# Altium footprint library crystal_my.PCBLIB: 68 footprints (part 3 of 5)
Each footprint in its own frame and in the unit in brackets; x right, y up, seen from the top. Pads: shape width x height; smd on the part's side, far side on the other; paste and mask are expansions set on the pad; w line width, h text height; cw(c..) or ccw(c..) is an arc to the next point about the centre after c.
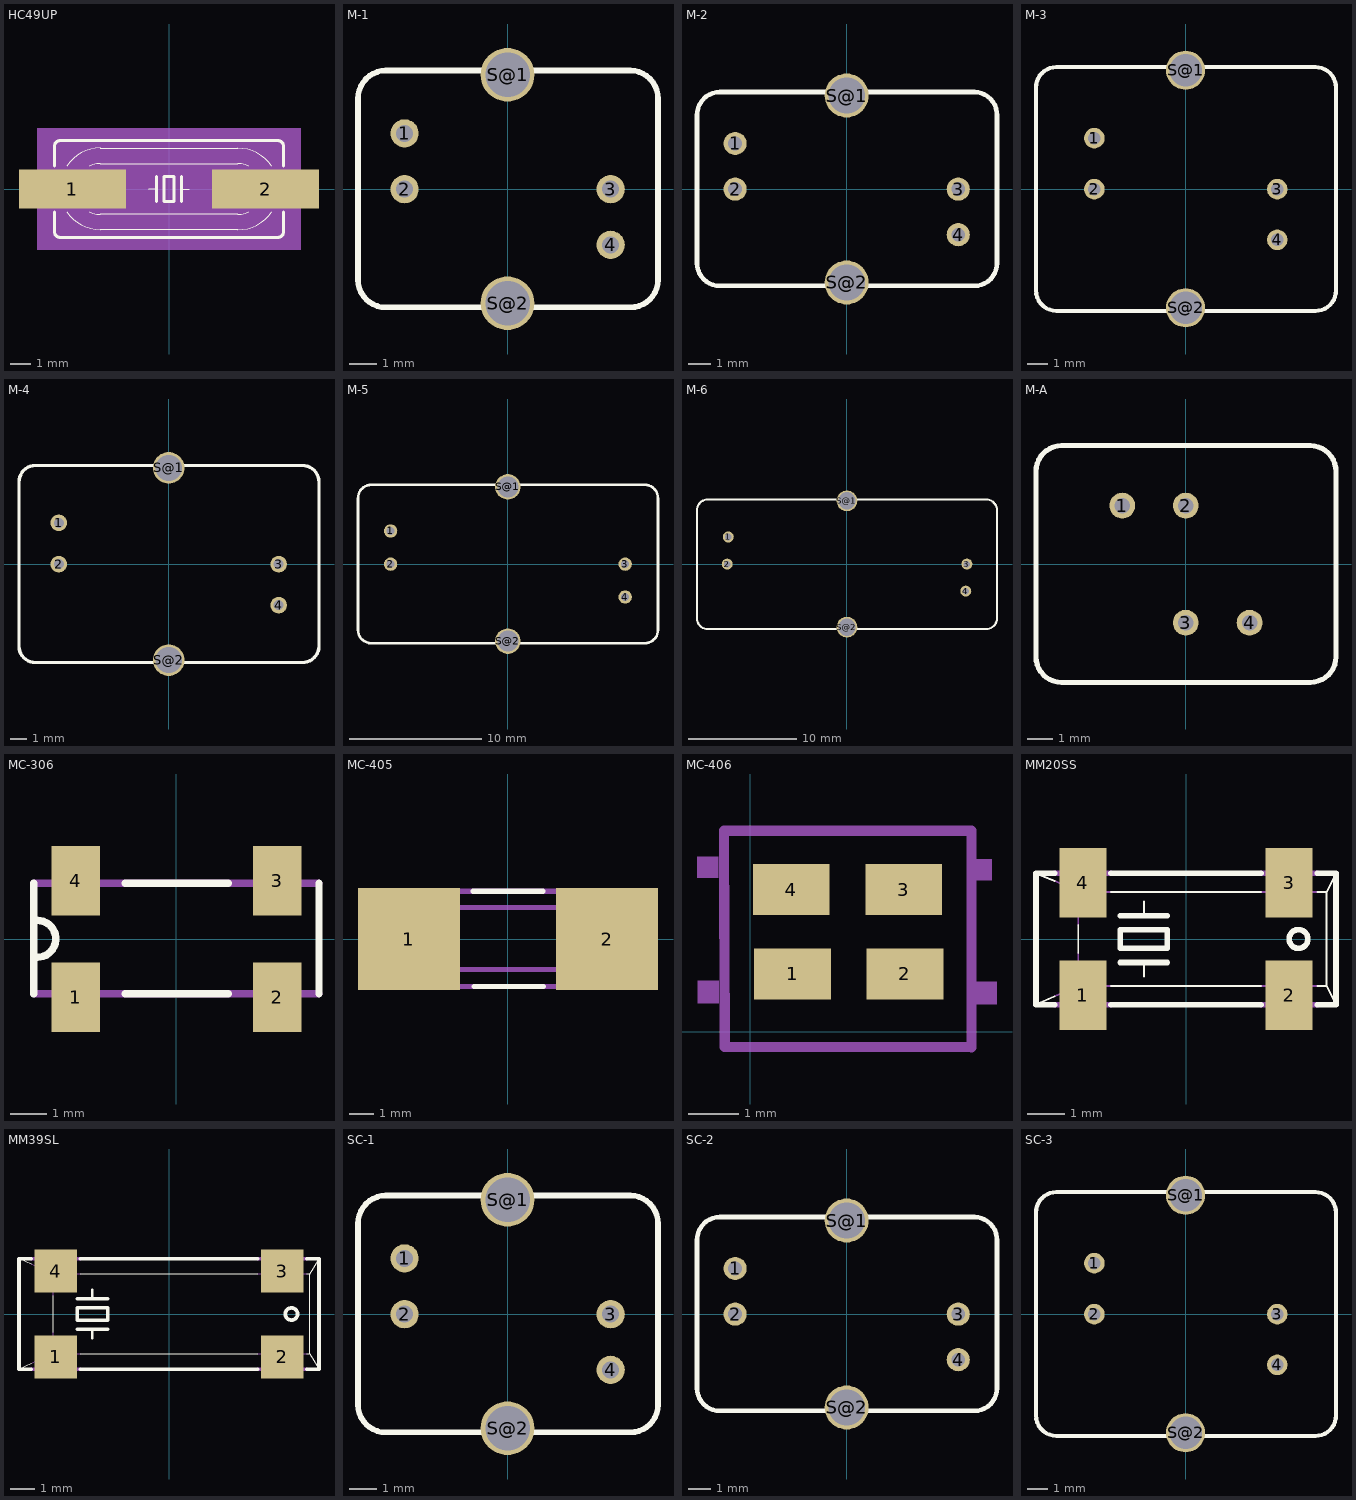
[diagram p2: the footprints below, top view; thin cyan lines are the x and y axes]

## HC49UP [mil]
pads (2):
  rect 210x76 smd: 1(-190,0) 2(190,0)
Top Overlay:
  lines w2: -201.15,-45 ccw(c-135,0) -135,-80 135,-80 ccw(c135.42,0.81) 202,-45 ; -201.15,45 cw(c-134.06,0.5) -135,81 ; -156.8,-45 ccw(c-135,0) -135,-50 135,-50 ccw(c135.1,0.45) 157,-45 ; -156.8,45 cw(c-135,0) -135,50 135,50 cw(c135.1,-0.45) 157,45 ; -135,80 135,80 cw(c135.43,-0.81) 202,45 ; -40,0 -25,0 ; 25,0 40,0
  lines w6: -225,-45 -225,-85 ccw(c-215,-85) -215,-95 215,-95 ccw(c215,-85) 225,-85 225,-45 ; -225,45 -225,85 cw(c-215,85) -215,95 215,95 cw(c215,85) 225,85 225,45 ; -25,-25 -25,0 -25,25 ; 25,-25 25,0 25,25 ; -10,-25 -10,25 10,25 10,-25 -10,-25
Mechanical 10:
  rectangle: -260,-120 260,120
Mechanical 16:
  lines w2: -201.15,-45 cw(c-135,0) -201.15,45 ; -156.8,-45 cw(c-135,0) -156.8,45 ; 157,-45 ccw(c135.2,0) 157,45 ; 202,-45 ccw(c135.85,0) 202,45
  lines w6: -225,-45 -225,-15 ; -225,45 -225,15 ; 225,-45 225,45 ; 225,-15 255,-15 255,15 225,15 ; -225,-15 -225,15 ; -225,-15 -255,-15 -255,15 -225,15

## M-1 [mil]
pads (6):
  round 40 hole 24: 1(-145.67,79) 2(-145.67,0) 3(146,0) 4(146,-78.74)
  round 76 hole 63: S@1(0,162) S@2(0,-161.42)
Top Overlay:
  lines w8: -211.61,-127.95 -211.61,128 cw(c-171.93,128.31) -172.24,168 174,168 cw(c173.5,128.5) 213,128 213,-127.95 cw(c173.81,-128.14) 174,-167.32 -172.24,-167.32 cw(c-172.24,-127.95) -211.61,-127.95

## M-2 [mil]
pads (6):
  round 40 hole 24: 1(-192.91,79) 2(-192.91,0) 3(193,0) 4(193,-78.74)
  round 76 hole 63: S@1(0,162) S@2(0,-161.42)
Top Overlay:
  lines w8: -258.86,-127.95 -258.86,128 cw(c-219.17,128.31) -219.49,168 221,168 cw(c220.5,128.5) 260,128 260,-127.95 cw(c220.81,-128.14) 221,-167.32 -219.49,-167.32 cw(c-219.49,-127.95) -258.86,-127.95

## M-3 [mil]
pads (6):
  round 40 hole 24: 1(-177.17,99) 2(-177.17,0) 3(178,0) 4(178,-98.43)
  round 76 hole 63: S@1(0,231) S@2(0,-230.31)
Top Overlay:
  lines w8: -290.35,-196.85 -290.35,197 cw(c-250.67,197.31) -250.98,237 252,237 cw(c252,197) 292,197 292,-196.85 cw(c252.31,-196.54) 252,-236.22 -250.98,-236.22 cw(c-250.98,-196.85) -290.35,-196.85

## M-4 [mil]
pads (6):
  round 40 hole 24: 1(-263.78,99) 2(-263.78,0) 3(264,0) 4(264,-98.43)
  round 76 hole 63: S@1(0,231) S@2(0,-230.31)
Top Overlay:
  lines w8: -359.25,-196.85 -359.25,197 cw(c-319.57,197.31) -319.88,237 321,237 cw(c321,197) 361,197 361,-196.85 cw(c321.31,-196.54) 321,-236.22 -319.88,-236.22 cw(c-319.88,-196.85) -359.25,-196.85

## M-5 [mil]
pads (6):
  round 40 hole 24: 1(-350.39,99) 2(-350.39,0) 3(351,0) 4(351,-98.43)
  round 76 hole 63: S@1(0,231) S@2(0,-230.31)
Top Overlay:
  lines w8: -447.83,-196.85 -447.83,197 cw(c-408.15,197.31) -408.46,237 410,237 cw(c409.5,197.5) 449,197 449,-196.85 cw(c409.81,-197.04) 410,-236.22 -408.46,-236.22 cw(c-408.46,-196.85) -447.83,-196.85

## M-6 [mil]
pads (6):
  round 40 hole 24: 1(-433.07,99) 2(-437.01,0) 3(438,0) 4(434,-98.43)
  round 76 hole 63: S@1(0,231) S@2(0,-230.31)
Top Overlay:
  lines w8: -547.24,-197.83 -547.24,196 cw(c-507.56,196.31) -507.87,236 508,236 cw(c508,196) 548,196 548,-197.83 cw(c508.31,-197.52) 508,-237.2 -507.87,-237.2 cw(c-507.87,-197.83) -547.24,-197.83

## M-A [mil]
pads (4):
  round 40 hole 24: 1(-98.43,91) 2(0,91) 3(0,-90.55) 4(99,-90.55)
Top Overlay:
  lines w8: -232.28,-143.7 -232.28,144 cw(c-192.6,144.31) -192.91,184 193,184 cw(c193,144) 233,144 233,-143.7 cw(c193.31,-143.39) 193,-183.07 -192.91,-183.07 cw(c-192.91,-143.7) -232.28,-143.7

## MC-306 [mil]
pads (4):
  rect 52x75 smd: 1(-108.27,-62.99) 2(109,-62.99) 3(109,63) 4(-108.27,63)
Top Overlay:
  lines w8: -153.54,-59.06 -153.54,60 ; -149.61,-19.69 ccw(c-149.61,0.16) -149.61,20 ; -55.12,-59.06 56,-59.06 ; -55.12,60 56,60 ; 154,-59.06 154,60
Mechanical 16:
  lines w8: -153.54,-59.06 154,-59.06 ; -153.54,60 154,60

## MC-405 [mil]
pads (2):
  rect 162x162 smd: 1(-157.48,0) 2(158,0)
Top Overlay:
  lines w8: -55.12,76 56,76 ; -54.13,-75.79 57,-75.79
Mechanical 16:
  rectangle: -204.72,47 -187.99,64
  rectangle: -204.72,-63.98 -187.99,-46.26
  region: 205,-46.26 188,-46.26 188,-63.98 205,-63.98
  region: 205,64 188,64 188,47 205,47
  lines w8: -185.04,-75.79 186,-75.79 ; -185.04,-75.79 -185.04,76 ; -185.04,-75.79 -131.89,-48.23 ; -185.04,76 186,76 ; -185.04,76 -131.89,50 ; -131.89,-48.23 -131.89,50 ; -131.89,-48.23 157,-48.23 157,-47.24 ; -131.89,50 157,50 157,49 ; 157,-47.24 157,49 ; 157,-47.24 186,-75.79 ; 157,49 186,76 ; 186,-75.79 186,76

## MC-406 [mil]
pads (4):
  rect 60x40 smd: 1(33,45) 2(121,45) 3(120,111) 4(32,111)
Mechanical 16:
  rectangle: -41.72,120 -24.99,137
  rectangle: -41.22,22 -24.49,40
  region: 193,39 177,39 177,21 193,21
  region: 189,135 172,135 172,118 189,118
  lines w8: -20.54,157 173,157 173,-12.24 -20.04,-12.14 -20.54,157

## MM20SS [mil]
pads (4):
  rect 50x74 smd: 1(-110,-60) 2(110,-60) 3(110,60) 4(-110,60)
Top Overlay:
  circle w6: c120,0 r10
  lines w2: -160,-70 -140,-61.1 ; -160,70 -140,62 ; -115,-15 -115,15 ; -80,-50 80,-50 ; -80,50 80,50 ; -45,-40 -45,-25 ; -45,25 -45,40 ; 140,-50 150,-50 ; 140,50 150,50 ; 160,-70 150,-50 ; 160,70 150,50 ; 150,-50 150,50
  lines w6: -140,-70 -160,-70 -160,70 -140,70 ; -80,-70 80,-70 ; -80,70 80,70 ; -70,-25 -45,-25 -20,-25 ; -70,25 -45,25 -20,25 ; 140,-70 160,-70 160,70 140,70 ; -70,-10 -20,-10 -20,10 -70,10 -70,-10
Mechanical 16:
  lines w2: -140,-61.1 -115,-50 ; -140,62 -115,50 ; -115,-15 -115,-50 ; -115,15 -115,50 ; -80,-50 -115,-50 ; -80,50 -115,50 ; 80,-50 140,-50 ; 80,50 140,50
  lines w6: -140,-70 -80,-70 ; -140,70 -80,70 ; -120,-70 -120,-75 -100,-75 -100,-70 ; -120,70 -120,75 -100,75 -100,70 ; 80,-70 140,-70 ; 80,70 140,70 ; 100,-70 100,-75 120,-75 120,-70 ; 100,70 100,75 120,75 120,70

## MM39SL [mil]
pads (4):
  rect 70x70 smd: 1(-185,-70) 2(185,-70) 3(185,70) 4(-185,70)
Top Overlay:
  circle w6: c200,0 r10
  lines w2: -245,-90 -225,-80.91 ; -245,90 -225,81 ; -190,-30 -190,30 ; -145,-65 145,-65 ; -145,65 145,65 ; 225,-65 230,-65 ; 225,65 230,65 ; 245,-90 230,-65 ; 245,90 230,65 ; 230,-65 230,65
  lines w4: -125,-40 -125,-25 ; -125,25 -125,40
  lines w6: -225,-90 -245,-90 -245,90 -225,90 ; -150,-25 -125,-25 -100,-25 ; -150,25 -125,25 -100,25 ; -145,-90 145,-90 ; -145,90 145,90 ; 225,-90 245,-90 245,90 225,90 ; -150,-10 -100,-10 -100,10 -150,10 -150,-10
Mechanical 16:
  lines w2: -225,-80.91 -190,-65 ; -225,81 -190,65 ; -190,-30 -190,-65 ; -190,30 -190,65 ; -145,-65 -190,-65 ; -145,65 -190,65 ; 145,-65 225,-65 ; 145,65 225,65
  lines w6: -225,-90 -145,-90 ; -225,90 -145,90 ; 145,-90 225,-90 ; 145,90 225,90

## SC-1 [mil]
pads (6):
  round 40 hole 24: 1(-145.67,79) 2(-145.67,0) 3(146,0) 4(146,-78.74)
  round 76 hole 63: S@1(0,162) S@2(0,-161.42)
Top Overlay:
  lines w8: -211.61,-127.95 -211.61,128 cw(c-171.93,128.31) -172.24,168 174,168 cw(c173.5,128.5) 213,128 213,-127.95 cw(c173.81,-128.14) 174,-167.32 -172.24,-167.32 cw(c-172.24,-127.95) -211.61,-127.95

## SC-2 [mil]
pads (6):
  round 40 hole 24: 1(-192.91,79) 2(-192.91,0) 3(193,0) 4(193,-78.74)
  round 76 hole 63: S@1(0,162) S@2(0,-161.42)
Top Overlay:
  lines w8: -258.86,-127.95 -258.86,128 cw(c-219.17,128.31) -219.49,168 221,168 cw(c220.5,128.5) 260,128 260,-127.95 cw(c220.81,-128.14) 221,-167.32 -219.49,-167.32 cw(c-219.49,-127.95) -258.86,-127.95

## SC-3 [mil]
pads (6):
  round 40 hole 24: 1(-177.17,99) 2(-177.17,0) 3(178,0) 4(178,-98.43)
  round 76 hole 63: S@1(0,231) S@2(0,-230.31)
Top Overlay:
  lines w8: -290.35,-196.85 -290.35,197 cw(c-250.67,197.31) -250.98,237 252,237 cw(c252,197) 292,197 292,-196.85 cw(c252.31,-196.54) 252,-236.22 -250.98,-236.22 cw(c-250.98,-196.85) -290.35,-196.85